# EAGLE library part ESP8266EX (library espressif)
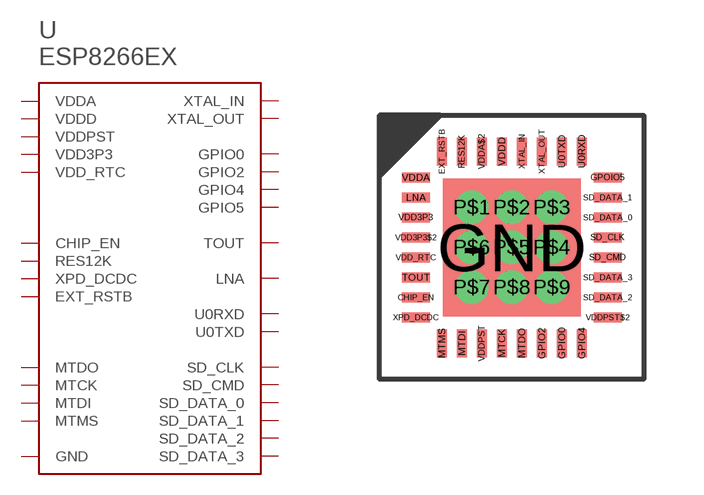
[diagram p0: symbol with the pads of ESP8266EX; footprint ESP8266EX]

Designator prefix U

## ESP8266EX  [ESP8266EX]
CHIP_EN  CHIP_EN
EXT_RSTB  EXT_RSTB
GND  GND
GPIO0  GPIO0
GPIO2  GPIO2
GPIO4  GPIO4
GPOIO5  GPIO5
LNA  LNA
MTCK  MTCK
MTDI  MTDI
MTDO  MTDO
MTMS  MTMS
P$1  GND
P$2  GND
P$3  GND
P$4  GND
P$5  GND
P$6  GND
P$7  GND
P$8  GND
P$9  GND
RES12K  RES12K
SD_CLK  SD_CLK
SD_CMD  SD_CMD
SD_DATA_0  SD_DATA_0
SD_DATA_1  SD_DATA_1
SD_DATA_2  SD_DATA_2
SD_DATA_3  SD_DATA_3
TOUT  TOUT
U0RXD  U0RXD
U0TXD  U0TXD
VDD3P3  VDD3P3
VDD3P3$2  VDD3P3
VDD_RTC  VDD_RTC
VDDA  VDDA
VDDA$2  VDDA
VDDD  VDDD
VDDPST  VDDPST
VDDPST$2  VDDPST
XPD_DCDC  XPD_DCDC
XTAL_IN  XTAL_IN
XTAL_OUT  XTAL_OUT

## Footprint ESP8266EX (pad centres in mm)
smd 0.7 x 0.25: CHIP_EN -2.4,-1.25; GPOIO5 2.4,1.75; LNA -2.4,1.25; SD_CLK 2.4,0.25; SD_CMD 2.4,-0.25; SD_DATA_0 2.4,0.75; SD_DATA_1 2.4,1.25; SD_DATA_2 2.4,-1.25; SD_DATA_3 2.4,-0.75; TOUT -2.4,-0.75; VDD3P3 -2.4,0.75; VDD3P3$2 -2.4,0.25; VDD_RTC -2.4,-0.25; VDDA -2.4,1.75; VDDPST$2 2.4,-1.75; XPD_DCDC -2.4,-1.75
smd 0.25 x 0.7: EXT_RSTB -1.75,2.4; GPIO0 1.25,-2.4; GPIO2 0.75,-2.4; GPIO4 1.75,-2.4; MTCK -0.25,-2.4; MTDI -1.25,-2.4; MTDO 0.25,-2.4; MTMS -1.75,-2.4; RES12K -1.25,2.4; U0RXD 1.75,2.4; U0TXD 1.25,2.4; VDDA$2 -0.75,2.4; VDDD -0.25,2.4; VDDPST -0.75,-2.4; XTAL_IN 0.25,2.4; XTAL_OUT 0.75,2.4
smd 3.45 x 3.45: GND 0,0
drill 0.33 pad 0.61: P$1 -1,1; P$2 0,1; P$3 1,1; P$4 1,0; P$5 0,0; P$6 -1,0; P$7 -1,-1; P$8 0,-1; P$9 1,-1